# Altium footprint library HEADERS.PcbLib: 15 footprints
Each footprint in its own frame and in the unit in brackets; x right, y up, seen from the top. Pads: shape width x height; smd on the part's side, far side on the other; paste and mask are expansions set on the pad; w line width, h text height; cw(c..) or ccw(c..) is an arc to the next point about the centre after c.
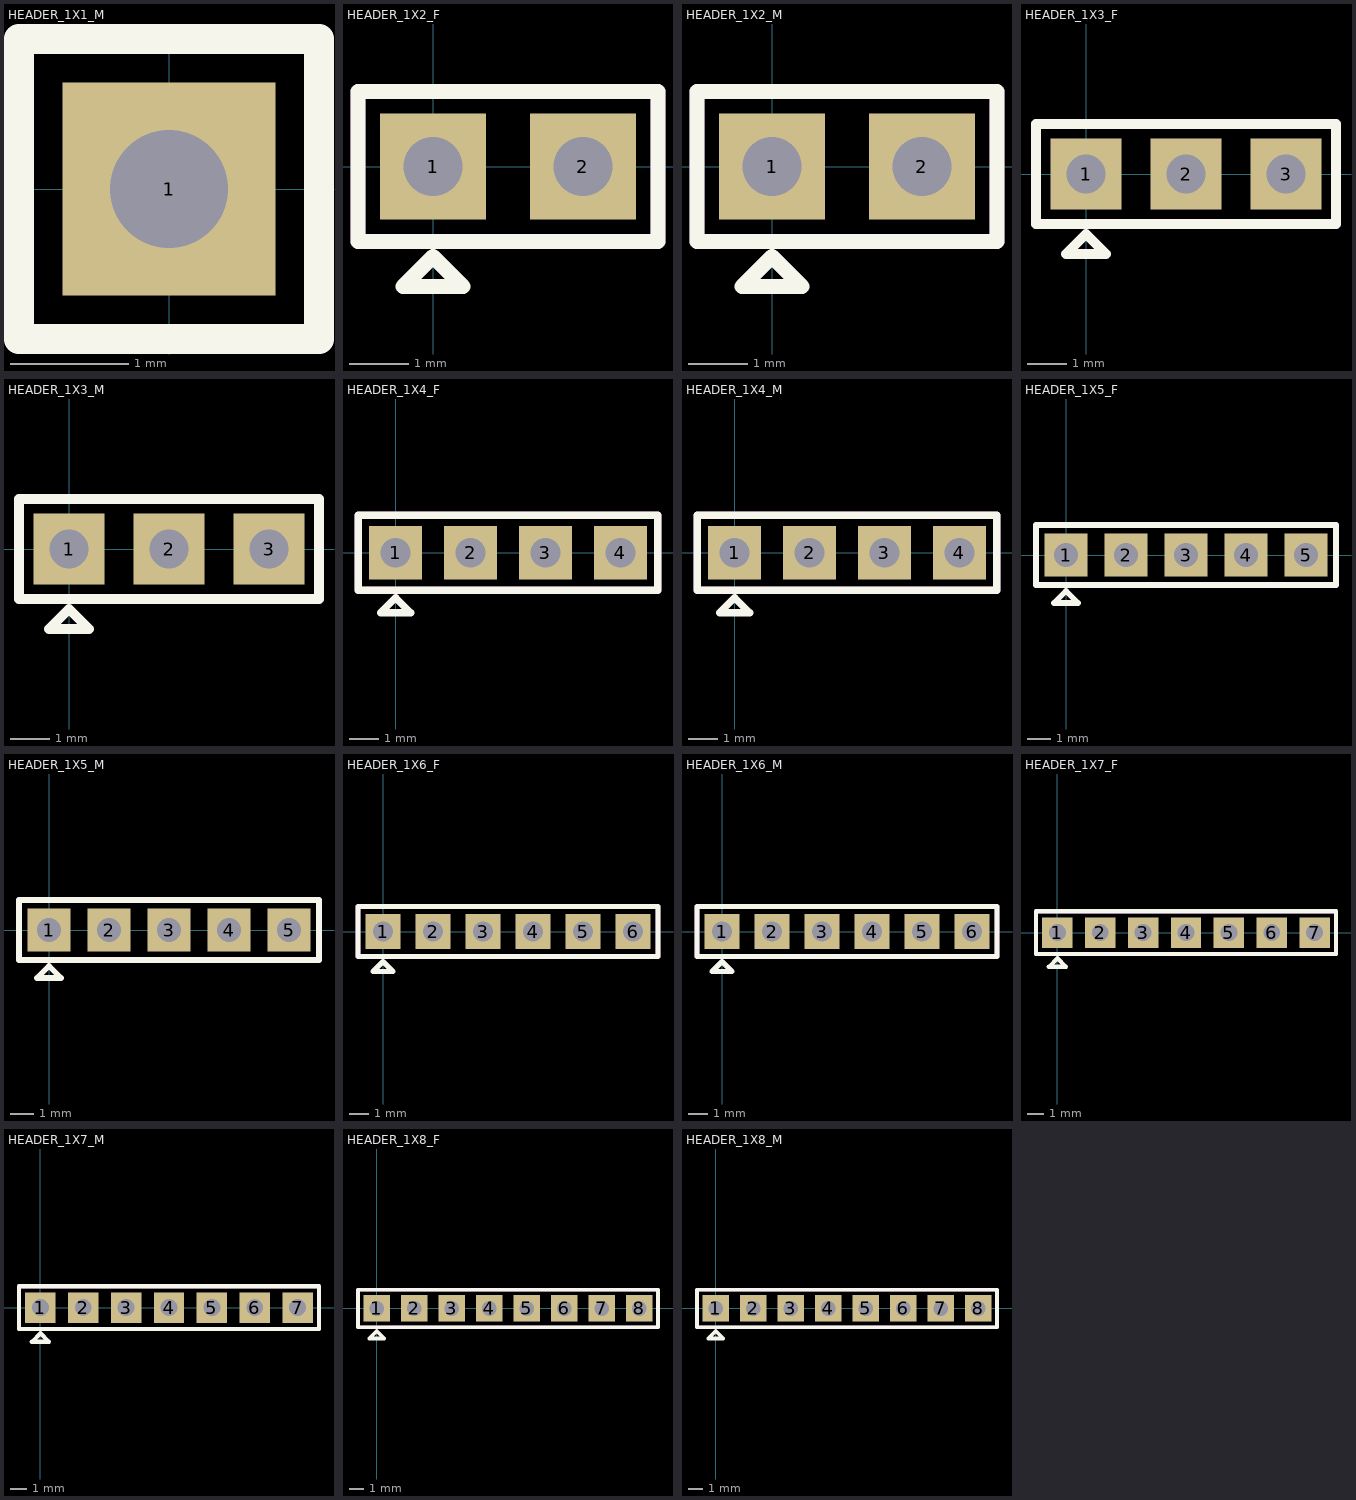
[diagram p0: the footprints below, top view; thin cyan lines are the x and y axes]

## HEADER_1X1_M [mm]
pads (1):
  rect 1.8x1.8 hole 1: 1(0,0)
Top Overlay:
  lines w0.254: -1.27,-1.27 1.27,-1.27 1.27,1.27 -1.27,1.27 -1.27,-1.27
Mechanical 1:
  lines w0.254: -1.27,-1.27 1.27,-1.27 1.27,1.27 -1.27,1.27 -1.27,-1.27
3D body "1X1_M.step": height 8.38, standoff -2.92, extent -1.27,-1.27 1.27,1.27

## HEADER_1X2_F [mm]
pads (2):
  rect 1.8x1.8 hole 1: 1(0,0) 2(2.54,0)
Top Overlay:
  lines w0.254: -1.27,-1.27 -1.27,1.27 3.81,1.27 3.81,-1.27 -1.27,-1.27 ; -0.508,-2.032 0,-1.524 0.508,-2.032 -0.508,-2.032
Mechanical 1:
  lines w0.254: -1.27,-1.27 3.81,-1.27 3.81,1.27 -1.27,1.27 -1.27,-1.27
3D body "1X2_F.step": height 8.4, standoff -3.15, extent -1.27,-1.25 3.81,1.25

## HEADER_1X2_M [mm]
pads (2):
  rect 1.8x1.8 hole 1: 1(0,0) 2(2.54,0)
Top Overlay:
  lines w0.254: -1.27,-1.27 -1.27,1.27 3.81,1.27 3.81,-1.27 -1.27,-1.27 ; -0.508,-2.032 0.508,-2.032 0,-1.524 -0.508,-2.032
Mechanical 1:
  lines w0.254: -1.27,-1.27 -1.27,1.27 3.81,1.27 3.81,-1.27 -1.27,-1.27
3D body "1X1_M.step": height 8.38, standoff -2.92, extent 1.27,-1.27 3.81,1.27
3D body "1X1_M.step": height 8.38, standoff -2.92, extent -1.27,-1.27 1.27,1.27

## HEADER_1X3_F [mm]
pads (3):
  rect 1.8x1.8 hole 1: 1(0,0) 2(2.54,0) 3(5.08,0)
Top Overlay:
  lines w0.254: -1.27,-1.27 -1.27,1.27 6.35,1.27 6.35,-1.27 -1.27,-1.27 ; -0.508,-2.032 0.508,-2.032 0,-1.524 -0.508,-2.032
Mechanical 1:
  lines w0.254: -1.27,-1.27 -1.27,1.27 6.35,1.27 6.35,-1.27 -1.27,-1.27
3D body "1X3_F.step": height 8.4, standoff -3.15, extent -1.27,-1.25 6.35,1.25

## HEADER_1X3_M [mm]
pads (3):
  rect 1.8x1.8 hole 1: 1(0,0) 2(2.54,0) 3(5.08,0)
Top Overlay:
  lines w0.254: -1.27,-1.27 -1.27,1.27 6.35,1.27 6.35,-1.27 -1.27,-1.27 ; -0.508,-2.032 0.508,-2.032 0,-1.524 -0.508,-2.032
Mechanical 1:
  lines w0.254: -1.27,-1.27 -1.27,1.27 6.35,1.27 6.35,-1.27 -1.27,-1.27
3D body "1X1_M.step": height 8.38, standoff -2.92, extent 3.81,-1.27 6.35,1.27
3D body "1X1_M.step": height 8.38, standoff -2.92, extent 1.27,-1.27 3.81,1.27
3D body "1X1_M.step": height 8.38, standoff -2.92, extent -1.27,-1.27 1.27,1.27

## HEADER_1X4_F [mm]
pads (4):
  rect 1.8x1.8 hole 1: 1(0,0) 2(2.54,0) 3(5.08,0) 4(7.62,0)
Top Overlay:
  lines w0.254: -1.27,-1.27 -1.27,1.27 8.89,1.27 8.89,-1.27 -1.27,-1.27 ; -0.508,-2.032 0,-1.524 0.508,-2.032 -0.508,-2.032
Mechanical 1:
  lines w0.254: -1.27,-1.27 8.89,-1.27 8.89,1.27 -1.27,1.27 -1.27,-1.27
3D body "1X2_F.step": height 8.4, standoff -3.15, extent 3.81,-1.25 8.89,1.25
3D body "1X2_F.step": height 8.4, standoff -3.15, extent -1.27,-1.25 3.81,1.25

## HEADER_1X4_M [mm]
pads (4):
  rect 1.8x1.8 hole 1: 1(0,0) 2(2.54,0) 3(5.08,0) 4(7.62,0)
Top Overlay:
  lines w0.254: -1.27,-1.27 -1.27,1.27 8.89,1.27 8.89,-1.27 -1.27,-1.27 ; -0.508,-2.032 0.508,-2.032 0,-1.524 -0.508,-2.032
Mechanical 1:
  lines w0.254: -1.27,-1.27 8.89,-1.27 8.89,1.27 -1.27,1.27 -1.27,-1.27
3D body "1X1_M.step": height 8.38, standoff -2.92, extent 6.35,-1.27 8.89,1.27
3D body "1X1_M.step": height 8.38, standoff -2.92, extent 3.81,-1.27 6.35,1.27
3D body "1X1_M.step": height 8.38, standoff -2.92, extent 1.27,-1.27 3.81,1.27
3D body "1X1_M.step": height 8.38, standoff -2.92, extent -1.27,-1.27 1.27,1.27

## HEADER_1X5_F [mm]
pads (5):
  rect 1.8x1.8 hole 1: 1(0,0) 2(2.54,0) 3(5.08,0) 4(7.62,0) 5(10.16,0)
Top Overlay:
  lines w0.254: -1.27,-1.27 11.43,-1.27 11.43,1.27 -1.27,1.27 -1.27,-1.27 ; -0.508,-2.032 0,-1.524 0.508,-2.032 -0.508,-2.032
Mechanical 1:
  lines w0.254: -1.27,-1.27 11.43,-1.27 11.43,1.27 -1.27,1.27 -1.27,-1.27
3D body "1X3_F.step": height 8.4, standoff -3.15, extent -1.27,-1.25 6.35,1.25
3D body "1X3_F.step": height 8.4, standoff -3.15, extent 3.81,-1.25 11.43,1.25

## HEADER_1X5_M [mm]
pads (5):
  rect 1.8x1.8 hole 1: 1(0,0) 2(2.54,0) 3(5.08,0) 4(7.62,0) 5(10.16,0)
Top Overlay:
  lines w0.254: -1.27,-1.27 -1.27,1.27 11.43,1.27 11.43,-1.27 -1.27,-1.27 ; -0.508,-2.032 0.508,-2.032 0,-1.524 -0.508,-2.032
Mechanical 1:
  lines w0.254: -1.27,-1.27 -1.27,1.27 11.43,1.27 11.43,-1.27 -1.27,-1.27
3D body "1X1_M.step": height 8.38, standoff -2.92, extent -1.27,-1.27 1.27,1.27
3D body "1X1_M.step": height 8.38, standoff -2.92, extent 1.27,-1.27 3.81,1.27
3D body "1X1_M.step": height 8.38, standoff -2.92, extent 3.81,-1.27 6.35,1.27
3D body "1X1_M.step": height 8.38, standoff -2.92, extent 6.35,-1.27 8.89,1.27
3D body "1X1_M.step": height 8.38, standoff -2.92, extent 8.89,-1.27 11.43,1.27

## HEADER_1X6_F [mm]
pads (6):
  rect 1.8x1.8 hole 1: 1(0,0) 2(2.54,0) 3(5.08,0) 4(7.62,0) 5(10.16,0) 6(12.7,0)
Top Overlay:
  lines w0.254: -1.27,-1.27 13.97,-1.27 13.97,1.27 -1.27,1.27 -1.27,-1.27 ; -0.508,-2.032 0,-1.524 0.508,-2.032 -0.508,-2.032
Mechanical 1:
  lines w0.254: -1.27,-1.27 13.97,-1.27 13.97,1.27 -1.27,1.27 -1.27,-1.27
3D body "1X3_F.step": height 8.4, standoff -3.15, extent -1.27,-1.25 6.35,1.25
3D body "1X3_F.step": height 8.4, standoff -3.15, extent 6.35,-1.25 13.97,1.25

## HEADER_1X6_M [mm]
pads (6):
  rect 1.8x1.8 hole 1: 1(0,0) 2(2.54,0) 3(5.08,0) 4(7.62,0) 5(10.16,0) 6(12.7,0)
Top Overlay:
  lines w0.254: -1.27,-1.27 -1.27,1.27 13.97,1.27 13.97,-1.27 -1.27,-1.27 ; -0.508,-2.032 0.508,-2.032 0,-1.524 -0.508,-2.032
Mechanical 1:
  lines w0.254: -1.27,-1.27 -1.27,1.27 13.97,1.27 13.97,-1.27 -1.27,-1.27
3D body "1X1_M.step": height 8.38, standoff -2.92, extent 3.81,-1.27 6.35,1.27
3D body "1X1_M.step": height 8.38, standoff -2.92, extent 1.27,-1.27 3.81,1.27
3D body "1X1_M.step": height 8.38, standoff -2.92, extent -1.27,-1.27 1.27,1.27
3D body "1X1_M.step": height 8.38, standoff -2.92, extent 11.43,-1.27 13.97,1.27
3D body "1X1_M.step": height 8.38, standoff -2.92, extent 8.89,-1.27 11.43,1.27
3D body "1X1_M.step": height 8.38, standoff -2.92, extent 6.35,-1.27 8.89,1.27

## HEADER_1X7_F [mm]
pads (7):
  rect 1.8x1.8 hole 1: 1(0,0) 2(2.54,0) 3(5.08,0) 4(7.62,0) 5(10.16,0) 6(12.7,0) 7(15.24,0)
Top Overlay:
  lines w0.254: -1.27,-1.27 16.51,-1.27 16.51,1.27 -1.27,1.27 -1.27,-1.27 ; -0.508,-2.032 0.508,-2.032 0,-1.524 -0.508,-2.032
Mechanical 1:
  lines w0.254: -1.27,-1.27 -1.27,1.27 16.51,1.27 16.51,-1.27 -1.27,-1.27
3D body "1X3_F.step": height 8.4, standoff -3.15, extent 8.89,-1.25 16.51,1.25
3D body "1X2_F.step": height 8.4, standoff -3.15, extent -1.27,-1.25 3.81,1.25
3D body "1X2_F.step": height 8.4, standoff -3.15, extent 3.81,-1.25 8.89,1.25

## HEADER_1X7_M [mm]
pads (7):
  rect 1.8x1.8 hole 1: 1(0,0) 2(2.54,0) 3(5.08,0) 4(7.62,0) 5(10.16,0) 6(12.7,0) 7(15.24,0)
Top Overlay:
  lines w0.254: -1.27,-1.27 16.51,-1.27 16.51,1.27 -1.27,1.27 -1.27,-1.27 ; -0.508,-2.032 0,-1.524 0.508,-2.032 -0.508,-2.032
Mechanical 1:
  lines w0.254: -1.27,-1.27 -1.27,1.27 16.51,1.27 16.51,-1.27 -1.27,-1.27
3D body "1X1_M.step": height 8.38, standoff -2.92, extent -1.27,-1.27 1.27,1.27
3D body "1X1_M.step": height 8.38, standoff -2.92, extent 1.27,-1.27 3.81,1.27
3D body "1X1_M.step": height 8.38, standoff -2.92, extent 3.81,-1.27 6.35,1.27
3D body "1X1_M.step": height 8.38, standoff -2.92, extent 6.35,-1.27 8.89,1.27
3D body "1X1_M.step": height 8.38, standoff -2.92, extent 8.89,-1.27 11.43,1.27
3D body "1X1_M.step": height 8.38, standoff -2.92, extent 11.43,-1.27 13.97,1.27
3D body "1X1_M.step": height 8.38, standoff -2.92, extent 13.97,-1.27 16.51,1.27

## HEADER_1X8_F [mm]
pads (8):
  rect 1.8x1.8 hole 1: 1(0,0) 2(2.54,0) 3(5.08,0) 4(7.62,0) 5(10.16,0) 6(12.7,0) 7(15.24,0) 8(17.78,0)
Top Overlay:
  lines w0.254: -1.27,-1.27 -1.27,1.27 19.05,1.27 19.05,-1.27 -1.27,-1.27 ; -0.508,-2.032 0,-1.524 0.508,-2.032 -0.508,-2.032
Mechanical 1:
  lines w0.254: -1.27,-1.27 -1.27,1.27 19.05,1.27 19.05,-1.27 -1.27,-1.27
3D body "1X2_F.step": height 8.4, standoff -3.15, extent 3.81,-1.25 8.89,1.25
3D body "1X2_F.step": height 8.4, standoff -3.15, extent -1.27,-1.25 3.81,1.25
3D body "1X2_F.step": height 8.4, standoff -3.15, extent 8.89,-1.25 13.97,1.25
3D body "1X2_F.step": height 8.4, standoff -3.15, extent 13.97,-1.25 19.05,1.25

## HEADER_1X8_M [mm]
pads (8):
  rect 1.8x1.8 hole 1: 1(0,0) 2(2.54,0) 3(5.08,0) 4(7.62,0) 5(10.16,0) 6(12.7,0) 7(15.24,0) 8(17.78,0)
Top Overlay:
  lines w0.254: -1.27,-1.27 19.05,-1.27 19.05,1.27 -1.27,1.27 -1.27,-1.27 ; -0.508,-2.032 0,-1.524 0.508,-2.032 -0.508,-2.032
Mechanical 1:
  lines w0.254: -1.27,-1.27 -1.27,1.27 19.05,1.27 19.05,-1.27 -1.27,-1.27
3D body "1X1_M.step": height 8.38, standoff -2.92, extent -1.27,-1.27 1.27,1.27
3D body "1X1_M.step": height 8.38, standoff -2.92, extent 1.27,-1.27 3.81,1.27
3D body "1X1_M.step": height 8.38, standoff -2.92, extent 3.81,-1.27 6.35,1.27
3D body "1X1_M.step": height 8.38, standoff -2.92, extent 6.35,-1.27 8.89,1.27
3D body "1X1_M.step": height 8.38, standoff -2.92, extent 8.89,-1.27 11.43,1.27
3D body "1X1_M.step": height 8.38, standoff -2.92, extent 11.43,-1.27 13.97,1.27
3D body "1X1_M.step": height 8.38, standoff -2.92, extent 13.97,-1.27 16.51,1.27
3D body "1X1_M.step": height 8.38, standoff -2.92, extent 16.51,-1.27 19.05,1.27